# Altium footprint library VESC_DEVICE.PcbLib: 60 footprints (part 1 of 4)
Each footprint in its own frame and in the unit in brackets; x right, y up, seen from the top. Pads: shape width x height; smd on the part's side, far side on the other; paste and mask are expansions set on the pad; w line width, h text height; cw(c..) or ccw(c..) is an arc to the next point about the centre after c.
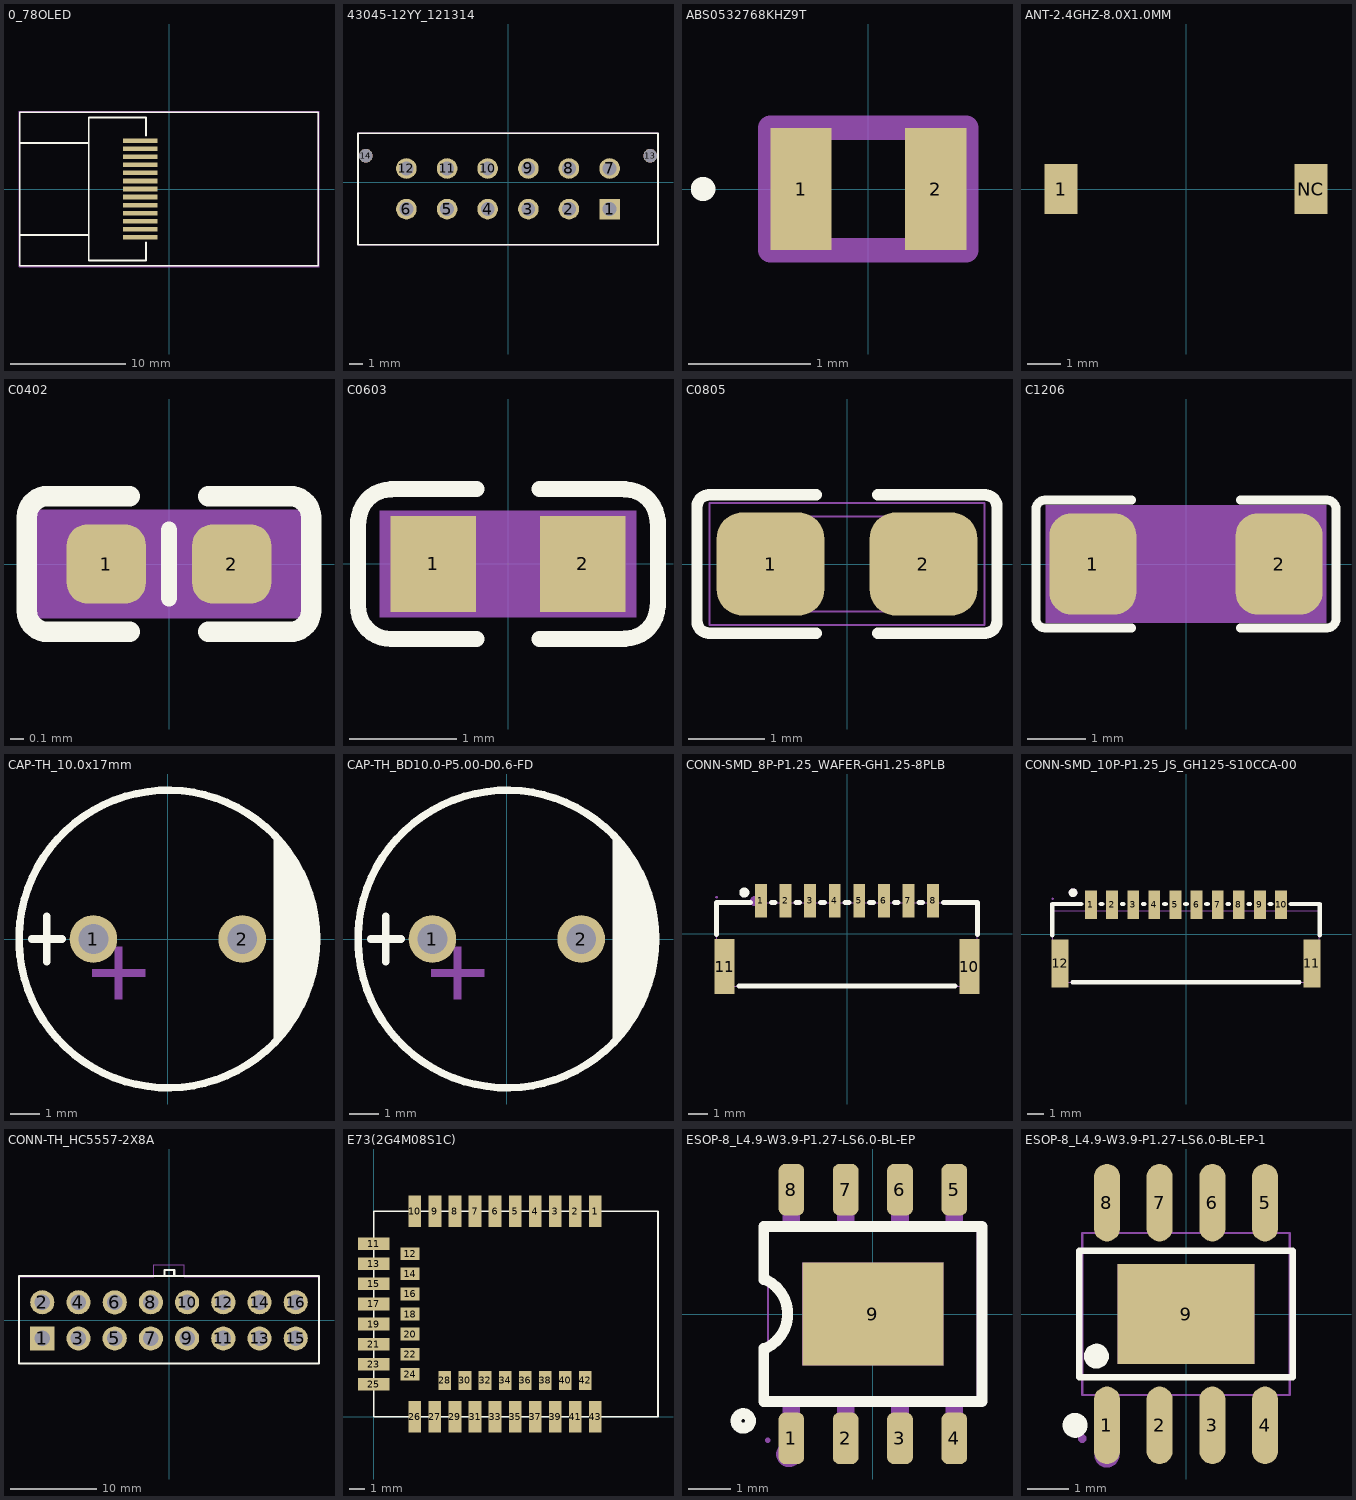
[diagram p0: the footprints below, top view; thin cyan lines are the x and y axes]

## 0_78OLED [mm] "0_78OLED"
pads (13):
  rect 3x0.4 smd: 1(-2.5,-4.2) 2(-2.5,-3.5) 3(-2.5,-2.8) 4(-2.5,-2.1) 5(-2.5,-1.4) 6(-2.5,-0.7) 7(-2.5,0) 8(-2.5,0.7) 9(-2.5,1.4) 10(-2.5,2.1) 11(-2.5,2.8) 12(-2.5,3.5) 13(-2.5,4.2)
Top Overlay:
  lines w0.152: -13,-4 -7,-4 ; -13,4 -7,4 ; -2,-4.631 -2,-6.233 -6.998,-6.233 -7,-6.231 -7,6.231 -2,6.231 -2,4.631 ; -13,-6.7 -13,6.7 13,6.7 13,-6.7 -13,-6.7
Top 3D Body:
  lines w0.025: -13.076,-6.776 -13.076,6.776 13.076,6.776 13.076,-6.776 -13.076,-6.776
Mechanical 9:
  text "9" at -2.754,0.13 h0.64
  text "1" at -2.754,-5.47 h0.64
  text "2" at -2.754,-4.77 h0.64
  text "8" at -2.754,-0.57 h0.64
  text "13" at -3.008,2.93 h0.64
  text "12" at -3.008,2.23 h0.64
  text "10" at -3.008,0.83 h0.64
  text "7" at -2.754,-1.27 h0.64
  text "5" at -2.754,-2.67 h0.64
  text "6" at -2.754,-1.97 h0.64
  text "11" at -3.008,1.53 h0.64
  text "3" at -2.754,-4.07 h0.64
  text "4" at -2.754,-3.37 h0.64
Top Assembly:
  lines w0.025: -13,-6.7 -13,6.7 13,6.7 13,-6.7 -13,-6.7

## 43045-12YY_121314 [mm]
pads (14):
  rect 1.52x1.52 hole 1.02: 1(7.5,-1.97)
  round 1.52 hole 1.02: 2(4.5,-1.97) 3(1.5,-1.97) 4(-1.5,-1.97) 5(-4.5,-1.97) 6(-7.5,-1.97) 7(7.5,1.03) 8(4.5,1.03) 9(1.5,1.03) 10(-1.5,1.03) 11(-4.5,1.03) 12(-7.5,1.03)
  round 1.02 hole 1.02 unplated: 13(10.5,1.97) 14(-10.5,1.97)
Top Overlay:
  lines w0.127: -11.075,-4.6 -11.075,3.63 11.075,3.63 11.075,-4.6 -11.075,-4.6
Mechanical 13:
  lines w0.127: -11.075,-4.6 -11.075,3.63 11.075,3.63 11.075,-4.6 -11.075,-4.6
3D body "43045-1212.stp": height 8.83, standoff -4.26, extent -10.955,-4.51 11.195,4.26

## ABS0532768KHZ9T [mm]
pads (2):
  rect 0.5x1 smd: 1(-0.55,0) 2(0.55,0)
Top Overlay:
  lines w0.1: -1.4,0 ccw(c-1.35,0) -1.3,0 ; -1.4,0 cw(c-1.35,0) -1.3,0 ; -1.4,0 ccw(c-1.35,0) -1.3,0
Mechanical 13:
  lines w0.2: -0.8,-0.5 0.8,-0.5 0.8,0.5 -0.8,0.5 -0.8,-0.5
3D body "ABS05-32.768KHZ-9-T.stp": height 0.5, standoff 0, extent -0.8,-0.5 0.8,0.5

## ANT-2.4GHZ-8.0X1.0MM [mm] "ANT-2.4GHZ-8.0X1.0MM"
pads (2):
  rect 1x1.5 smd: 1(-3.75,0) NC(3.75,0)
Board Shape:
  text ".Designator" at -2.252,-0.226 h1
3D body "3sAp-L1.step": height 1, standoff 0, extent -4.75,-1.05 4.75,1.05

## C0402 [mm] "C0402"
pads (2):
  rrect52% 0.58x0.58 smd mask+0.05: 1(-0.46,0) 2(0.46,0)
Top Overlay:
  lines w0.12: 0,-0.25 0,0.25
  lines w0.15: -1.041,-0.348 ccw(c-0.889,-0.345) -0.889,-0.498 -0.289,-0.498 ; -1.041,-0.345 -1.041,0.345 ; -1.041,0.348 cw(c-0.889,0.345) -0.889,0.498 -0.289,0.498 ; 0.289,-0.498 0.889,-0.498 ccw(c0.889,-0.345) 1.041,-0.345 1.041,0.345 ccw(c0.889,0.345) 0.889,0.498 0.289,0.498
Top 3D Body:
  region: -1.1,-0.399 1.1,-0.399 1.1,0.399 -1.1,0.399
Mechanical 9:
  text "1" at -0.635,-0.254 h0.64
  text "2" at 0.254,-0.254 h0.64
Top Assembly:
  lines w0.025: -0.508,-0.241 -0.508,0.241 0.508,0.241 0.508,-0.241 -0.508,-0.241
3D body "CAPC1005X55.STEP": height 0.55, standoff 0, extent -0.5,-0.25 0.5,0.25

## C0603 [mil] "C0603"
pads (2):
  rect 31.5x35.4 smd: 1(-27.6,0) 2(27.6,0)
Top Overlay:
  lines w5.9: -55.3,16 -55.3,-15.5 ccw(c-43.13,-15.53) -43.1,-27.7 -11.7,-27.7 ; -55.1,15.7 cw(c-43.13,15.53) -43.1,27.5 ; -43.1,27.7 -11.7,27.7 ; 11.7,-27.7 43.1,-27.7 ; 11.7,27.7 43.1,27.7 ; 43.1,-27.5 ccw(c43.13,-15.53) 55.1,-15.7 ; 43.1,27.5 cw(c43.13,15.53) 55.1,15.7 ; 55.3,-15.5 55.3,16
Top 3D Body:
  region: -47.2,-19.7 47.2,-19.7 47.2,19.7 -47.2,19.7
Mechanical 9:
  text "2" at 27.6,10 h25
  text "1" at -27.6,10 h25
Top Assembly:
  lines w1: -31.5,-15.7 -31.5,15.7 31.5,15.7 31.5,-15.7 -31.5,-15.7
3D body "CAPC1608X90.STEP": height 35.43, standoff 0, extent -32.28,-16.34 30.71,15.55

## C0805 [mil] "C0805"
pads (2):
  rrect50% 55.5x53.1 smd: 1(-39.4,0) 2(39.4,0)
Top Overlay:
  lines w5.9: -15.8,-35.6 -71.3,-35.6 cw(c-71.28,-29.58) -77.3,-29.6 -77.3,29.6 cw(c-71.28,29.58) -71.3,35.6 -15.8,35.6 ; 15.8,-35.6 71.3,-35.6 ccw(c71.28,-29.58) 77.3,-29.6 77.3,29.6 ccw(c71.28,29.58) 71.3,35.6 15.8,35.6
Top 3D Body:
  lines w1: -70.9,-31.5 -70.9,31.5 70.9,31.5 70.9,-31.5 -70.9,-31.5
Mechanical 9:
  text "2" at 29.4,0 h25
  text "1" at -49.4,0 h25
Top Assembly:
  lines w1: -39.4,-24.4 -39.4,24.4 39.4,24.4 39.4,-24.4 -39.4,-24.4
3D body "CAPC2012X140.STEP": height 55.12, standoff 0, extent -39.37,-24.61 39.37,24.61

## C1206 [mil] "C1206"
pads (2):
  rrect50% 58.5x68 smd: 1(-62.7,0) 2(62.6,0)
Top Overlay:
  lines w5.9: -36.5,-43 -94.9,-43 cw(c-94.9,-37) -100.9,-37 -100.9,37 cw(c-94.9,37) -94.9,43 -36.5,43 ; 36.5,-43 94.9,-43 ccw(c94.9,-37) 100.9,-37 100.9,37 ccw(c94.9,37) 94.9,43 36.5,43
Top 3D Body:
  region: -94.5,-39.4 94.5,-39.4 94.5,39.4 -94.5,39.4
Mechanical 9:
  text "1" at -59.1,-31.8 h25
  text "2" at 70.9,-31.8 h25
Top Assembly:
  lines w1: -63,-31.5 -63,31.5 63,31.5 63,-31.5 -63,-31.5
3D body "CAPC3216X127.step": height 50, standoff 0, extent -62.99,-31.5 62.99,31.5

## CAP-TH_10.0x17mm [mm]
pads (2):
  round 1.6 hole 1 paste-2539.97 mask+0.05: 1(-2.5,0) 2(2.5,0)
Top Overlay:
  circle w0.254: c0,0 r5
  region: 3.556,3.556 3.556,-3.556 4.318,-2.54 4.826,-1.016 5.08,0.508 4.826,1.524
  lines w0.254: -4.572,0 -3.556,0 ; -4.064,-0.762 -4.064,0.762
Mechanical 6:
  region: -2.54,-1.016 -0.762,-1.016 -0.762,-1.27 -2.54,-1.27
  region: -1.778,-0.762 -1.778,-2.032 -1.524,-2.032 -1.524,-0.254 -1.778,-0.254
Mechanical 15:
  lines w0.051: -5,0 ccw(c0,0) 5,0 ccw(c0,0) -5,0
3D body "CAP.step": height 15.91, standoff -3.5, extent -4.994,-4.999 5.005,4.998

## CAP-TH_BD10.0-P5.00-D0.6-FD [mm]
pads (2):
  round 1.6 hole 1 paste-2539.97 mask+0.05: 1(-2.5,0) 2(2.5,0)
Top Overlay:
  circle w0.254: c0,0 r5
  region: 3.556,3.556 3.556,-3.556 4.318,-2.54 4.826,-1.016 5.08,0.508 4.826,1.524
  lines w0.254: -4.572,0 -3.556,0 ; -4.064,-0.762 -4.064,0.762
Mechanical 6:
  region: -1.778,-0.762 -1.778,-2.032 -1.524,-2.032 -1.524,-0.254 -1.778,-0.254
  region: -2.54,-1.016 -0.762,-1.016 -0.762,-1.27 -2.54,-1.27
Mechanical 15:
  lines w0.051: -5,0 cw(c0,0) 5,0 cw(c0,0) -5,0
3D body "CAP-TH_BD10.0-P5.00-D0.6-FD.step": height 24.91, standoff -3.5, extent -4.991,-5 5.005,5

## CONN-SMD_8P-P1.25_WAFER-GH1.25-8PLB [mm]
pads (10):
  rect 0.6x1.7 smd paste+0 mask+0.05: 1(-4.375,1.675) 2(-3.125,1.675) 3(-1.875,1.675) 4(-0.625,1.675) 5(0.625,1.675) 6(1.875,1.675) 7(3.125,1.675) 8(4.375,1.675)
  rect 1x2.8 smd paste+0 mask+0.05: 10(6.225,-1.675) 11(-6.225,-1.675)
Top Overlay:
  circle w0.254: c-5.221,2.084 r0.127
  lines w0.254: -6.625,-0.044 -6.625,1.575 -4.906,1.575 ; -5.494,-2.675 5.494,-2.675 ; -3.844,1.575 -3.656,1.575 ; -2.594,1.575 -2.406,1.575 ; -1.344,1.575 -1.156,1.575 ; -0.094,1.575 0.094,1.575 ; 1.156,1.575 1.344,1.575 ; 2.406,1.575 2.594,1.575 ; 3.656,1.575 3.844,1.575 ; 4.906,1.575 6.626,1.575 6.626,-0.044
Mechanical 6:
  circle w0.254: c-4.686,1.65 r0.127
Mechanical 15:
  region: -6.325,-0.675 -6.125,-0.675 -6.125,-2.675 -6.325,-2.675
  region: -4.475,2.277 -4.275,2.277 -4.275,1.177 -4.475,1.177
  region: -3.225,2.277 -3.025,2.277 -3.025,1.177 -3.225,1.177
  region: -1.975,2.277 -1.775,2.277 -1.775,1.177 -1.975,1.177
  region: -0.725,2.277 -0.525,2.277 -0.525,1.177 -0.725,1.177
  region: 3.025,2.277 3.225,2.277 3.225,1.177 3.025,1.177
  region: 1.775,2.277 1.975,2.277 1.975,1.177 1.775,1.177
  region: 0.525,2.277 0.725,2.277 0.725,1.177 0.525,1.177
  region: 4.275,2.277 4.475,2.277 4.475,1.177 4.275,1.177
  region: 6.125,-0.675 6.325,-0.675 6.325,-2.675 6.125,-2.675
  region: -6.565,1.845 -6.565,1.87 -6.6,1.905 -6.65,1.905 -6.685,1.87 -6.685,1.845 -6.685,1.82 -6.65,1.785 -6.6,1.785 -6.565,1.82 -6.565,1.845
  lines w0.051: -6.625,-2.675 6.625,-2.675 6.625,1.575 -6.625,1.575 -6.625,-2.675

## CONN-SMD_10P-P1.25_JS_GH125-S10CCA-00 [mm]
pads (12):
  rect 0.7x1.68 smd paste+0 mask+0.05: 1(-5.625,1.733) 2(-4.375,1.733) 3(-3.125,1.733) 4(-1.875,1.733) 5(-0.625,1.733) 6(0.625,1.733) 7(1.875,1.733) 8(3.125,1.733) 9(4.375,1.733) 10(5.625,1.733)
  rect 1x2.85 smd paste+0 mask+0.05: 11(7.455,-1.733) 12(-7.455,-1.733)
Top Overlay:
  circle w0.254: c-6.69,2.45 r0.127
  lines w0.254: -7.924,-0.076 -7.924,1.778 -6.206,1.778 ; -6.724,-2.857 6.724,-2.857 ; -5.044,1.778 -4.956,1.778 ; -3.794,1.778 -3.706,1.778 ; -2.544,1.778 -2.456,1.778 ; -1.294,1.778 -1.206,1.778 ; -0.044,1.778 0.044,1.778 ; 1.206,1.778 1.294,1.778 ; 2.456,1.778 2.544,1.778 ; 3.706,1.778 3.794,1.778 ; 4.956,1.778 5.044,1.778 ; 6.206,1.778 7.924,1.778 7.924,-0.076
Mechanical 6:
  circle w0.254: c-6.69,2.45 r0.127
Mechanical 15:
  region: -7.555,-1.357 -7.355,-1.357 -7.355,-2.857 -7.555,-2.857
  region: 7.555,-2.857 7.355,-2.857 7.355,-1.357 7.555,-1.357
  region: -5.725,2.09 -5.525,2.09 -5.525,1.09 -5.725,1.09
  region: -4.475,2.09 -4.275,2.09 -4.275,1.09 -4.475,1.09
  region: -3.225,2.09 -3.025,2.09 -3.025,1.09 -3.225,1.09
  region: -1.975,2.09 -1.775,2.09 -1.775,1.09 -1.975,1.09
  region: -0.725,2.09 -0.525,2.09 -0.525,1.09 -0.725,1.09
  region: 0.525,2.09 0.725,2.09 0.725,1.09 0.525,1.09
  region: 1.775,2.09 1.975,2.09 1.975,1.09 1.775,1.09
  region: 3.025,2.09 3.225,2.09 3.225,1.09 3.025,1.09
  region: 4.275,2.09 4.475,2.09 4.475,1.09 4.275,1.09
  region: 5.52,2.09 5.72,2.09 5.72,1.09 5.52,1.09
  region: -7.84,2.09 -7.84,2.115 -7.875,2.15 -7.925,2.15 -7.96,2.115 -7.96,2.09 -7.96,2.065 -7.925,2.03 -7.875,2.03 -7.84,2.065 -7.84,2.09
  lines w0.051: -7.9,-2.857 7.9,-2.857 7.9,1.393 -7.9,1.393 -7.9,-2.857
3D body "3ZO0-CN1.step": height 4.15, standoff 0, extent -7.896,-2.848 7.904,2.082

## CONN-TH_HC5557-2X8A [mm]
pads (16):
  rect 2.8x2.8 hole 1.8: 1(-14.7,-2.1)
  round 2.8 hole 1.8: 2(-14.7,2.1) 3(-10.5,-2.1) 4(-10.5,2.1) 5(-6.3,-2.1) 6(-6.29,2.091) 7(-2.1,-2.1) 8(-2.1,2.1) 9(2.1,-2.1) 10(2.1,2.1) 11(6.3,-2.1) 12(6.3,2.1) 13(10.5,-2.1) 14(10.5,2.1) 15(14.7,-2.1) 16(14.7,2.1)
Top Overlay:
  lines w0.254: -17.4,5 -17.4,-5 17.4,-5 17.4,5.146 -17.4,5.146 ; -0.533,5.204 -0.533,5.842 0.61,5.842 0.61,5.204
Mechanical 15:
  region: 14.13,2.67 15.27,2.67 15.27,1.53 14.13,1.53
  region: 14.13,-1.53 15.27,-1.53 15.27,-2.67 14.13,-2.67
  region: 9.93,2.67 11.07,2.67 11.07,1.53 9.93,1.53
  region: 9.93,-1.53 11.07,-1.53 11.07,-2.67 9.93,-2.67
  region: 5.73,2.67 6.87,2.67 6.87,1.53 5.73,1.53
  region: 5.73,-1.53 6.87,-1.53 6.87,-2.67 5.73,-2.67
  region: 1.53,2.67 2.67,2.67 2.67,1.53 1.53,1.53
  region: 1.53,-1.53 2.67,-1.53 2.67,-2.67 1.53,-2.67
  region: -2.67,2.67 -1.53,2.67 -1.53,1.53 -2.67,1.53
  region: -2.67,-1.53 -1.53,-1.53 -1.53,-2.67 -2.67,-2.67
  region: -15.27,-1.53 -14.13,-1.53 -14.13,-2.67 -15.27,-2.67
  region: -15.27,2.67 -14.13,2.67 -14.13,1.53 -15.27,1.53
  region: -11.07,-1.53 -9.93,-1.53 -9.93,-2.67 -11.07,-2.67
  region: -11.07,2.67 -9.93,2.67 -9.93,1.53 -11.07,1.53
  region: -6.87,-1.53 -5.73,-1.53 -5.73,-2.67 -6.87,-2.67
  region: -6.86,2.661 -5.72,2.661 -5.72,1.521 -6.86,1.521
  lines w0.051: -17.399,-4.953 -17.399,5.08 -1.778,5.08 -1.778,6.477 1.778,6.477 1.778,5.08 17.399,5.08 17.399,-4.953 -16.637,-4.953 -17.145,-4.953 -17.399,-4.953
3D body "yane-H1.step": height 13.2, standoff -3.5, extent -17.4,-4.95 17.4,6.45

## E73(2G4M08S1C) [mm]
pads (43):
  rect 0.8x2 smd: 1(14.03,13) 2(12.76,13) 3(11.49,13) 4(10.22,13) 5(8.95,13) 6(7.68,13) 7(6.41,13) 8(5.14,13) 9(3.873,13) 10(2.6,13) 26(2.6,0) 27(3.87,0) 29(5.14,0) 31(6.41,0) 33(7.68,0) 35(8.95,0) 37(10.22,0) 39(11.49,0) 41(12.757,0) 43(14.03,0)
  rect 2x0.8 smd: 11(0,10.945) 13(0,9.675) 15(0,8.405) 17(0,7.135) 19(0,5.865) 21(0,4.595) 23(0,3.325) 25(0,2.055)
  rect 1.2x0.8 smd: 12(2.3,10.31) 14(2.3,9.04) 16(2.3,7.77) 18(2.3,6.5) 20(2.3,5.23) 22(2.3,3.96) 24(2.3,2.69)
  rect 0.8x1.2 smd: 28(4.505,2.3) 30(5.775,2.3) 32(7.045,2.3) 34(8.315,2.3) 36(9.585,2.3) 38(10.855,2.3) 40(12.125,2.3) 42(13.39,2.3)
Top Overlay:
  lines w0.1: 0,0 18,0 18,13 0,13 0,0

## ESOP-8_L4.9-W3.9-P1.27-LS6.0-BL-EP [mm]
pads (9):
  rrect50% 0.6x1.2 smd: 1(-1.905,-2.908) 2(-0.635,-2.908) 3(0.635,-2.908) 4(1.905,-2.908) 5(1.905,2.908) 6(0.635,2.908) 7(-0.635,2.908) 8(-1.905,2.908)
  rect 3.3x2.4 smd: 9(0,0)
Top Overlay:
  circle w0.254: c-3.03,-2.5 r0.17
  lines w0.254: -2.55,-0.8 -2.55,-2.05 2.55,-2.05 2.55,2.05 -2.55,2.05 -2.55,0.8 ; -2.5,-0.8 ccw(c-2.875,0) -2.5,0.8
Mechanical 6:
  circle w0.3: c-1.96,-3.28 r0.15
Mechanical 15:
  region: 1.65,-1.2 -1.65,-1.2 -1.65,1.2 1.65,1.2
  region: 1.705,-2.95 1.705,-2.3 2.105,-2.3 2.105,-2.95
  region: 1.705,-2.31 1.705,-1.94 2.105,-1.94 2.105,-2.31
  region: 0.435,-2.95 0.435,-2.3 0.835,-2.3 0.835,-2.95
  region: 0.435,-2.31 0.435,-1.94 0.835,-1.94 0.835,-2.31
  region: -0.835,-2.95 -0.835,-2.3 -0.435,-2.3 -0.435,-2.95
  region: -0.835,-2.31 -0.835,-1.94 -0.435,-1.94 -0.435,-2.31
  region: -2.105,-2.95 -2.105,-2.3 -1.705,-2.3 -1.705,-2.95
  region: -2.105,-2.31 -2.105,-1.94 -1.705,-1.94 -1.705,-2.31
  region: 1.705,2.3 1.705,2.95 2.105,2.95 2.105,2.3
  region: 1.705,1.94 1.705,2.31 2.105,2.31 2.105,1.94
  region: 0.435,2.3 0.435,2.95 0.835,2.95 0.835,2.3
  region: 0.435,1.94 0.435,2.31 0.835,2.31 0.835,1.94
  region: -0.835,2.3 -0.835,2.95 -0.435,2.95 -0.435,2.3
  region: -0.835,1.94 -0.835,2.31 -0.435,2.31 -0.435,1.94
  region: -2.105,2.3 -2.105,2.95 -1.705,2.95 -1.705,2.3
  region: -2.105,1.94 -2.105,2.31 -1.705,2.31 -1.705,1.94
  region: -2.394,-2.95 -2.395,-2.925 -2.43,-2.891 -2.479,-2.891 -2.514,-2.926 -2.514,-2.95 -2.514,-2.974 -2.479,-3.009 -2.43,-3.009 -2.395,-2.974 -2.394,-2.95
  lines w0.051: -2.45,-1.95 -2.45,1.95 2.45,1.95 2.45,-1.95 -2.45,-1.95
3D body "9z2C-U2-ESOP-8_L4.9-W3.9-P1.27-LS6.0-BL-EP-1.step": height 1.5, standoff 0, extent -2.45,-3 2.45,3

## ESOP-8_L4.9-W3.9-P1.27-LS6.0-BL-EP-1 [mm]
pads (9):
  oval 0.63x1.865 smd: 1(-1.905,-2.682) 2(-0.635,-2.682) 3(0.635,-2.682) 4(1.905,-2.682) 5(1.905,2.682) 6(0.635,2.682) 7(-0.635,2.682) 8(-1.905,2.682)
  rect 3.3x2.4 smd paste+0 mask+0.05: 9(0,0)
Top Overlay:
  circle w0.3: c-2.159,-1.016 r0.15
  circle w0.3: c-2.672,-2.682 r0.15
  lines w0.152: -2.576,-1.521 2.576,-1.521 2.576,1.521 -2.576,1.521 -2.576,-1.521
Mechanical 6:
  circle w0.3: c-1.905,-3.4 r0.15
Mechanical 15:
  region: -1.65,1.2 1.65,1.2 1.65,-1.2 -1.65,-1.2
  region: 1.695,1.94 1.695,2.175 2.115,2.175 2.115,1.94
  region: 1.695,2.165 1.695,3 2.115,3 2.115,2.165
  region: 0.425,1.94 0.425,2.175 0.845,2.175 0.845,1.94
  region: 0.425,2.165 0.425,3 0.845,3 0.845,2.165
  region: -0.845,1.94 -0.845,2.175 -0.425,2.175 -0.425,1.94
  region: -0.845,2.165 -0.845,3 -0.425,3 -0.425,2.165
  region: -2.115,1.94 -2.115,2.175 -1.695,2.175 -1.695,1.94
  region: -2.115,2.165 -2.115,3 -1.695,3 -1.695,2.165
  region: 1.695,-2.175 1.695,-1.94 2.115,-1.94 2.115,-2.175
  region: 1.695,-3 1.695,-2.165 2.115,-2.165 2.115,-3
  region: 0.425,-2.175 0.425,-1.94 0.845,-1.94 0.845,-2.175
  region: 0.425,-3 0.425,-2.165 0.845,-2.165 0.845,-3
  region: -0.845,-2.175 -0.845,-1.94 -0.425,-1.94 -0.425,-2.175
  region: -0.845,-3 -0.845,-2.165 -0.425,-2.165 -0.425,-3
  region: -2.115,-2.175 -2.115,-1.94 -1.695,-1.94 -1.695,-2.175
  region: -2.115,-3 -2.115,-2.165 -1.695,-2.165 -1.695,-3
  region: -2.4,-3 -2.4,-2.959 -2.458,-2.9 -2.541,-2.9 -2.6,-2.959 -2.6,-3 -2.6,-3.042 -2.541,-3.1 -2.458,-3.1 -2.4,-3.041 -2.4,-3
  lines w0.051: -2.5,-1.95 2.5,-1.95 2.5,1.95 -2.5,1.95 -2.5,-1.95
3D body "9z2C-U2-ESOP-8_L4.9-W3.9-P1.27-LS6.0-BL-EP-1.step": height 1.5, standoff 0, extent -2.45,-3 2.45,3